# Altium schematic symbol library 4.2   - 接插件-脚距1.25.SchLib: 16 symbols
Pins are listed as number, name and electrical type; pins without a type are passive.

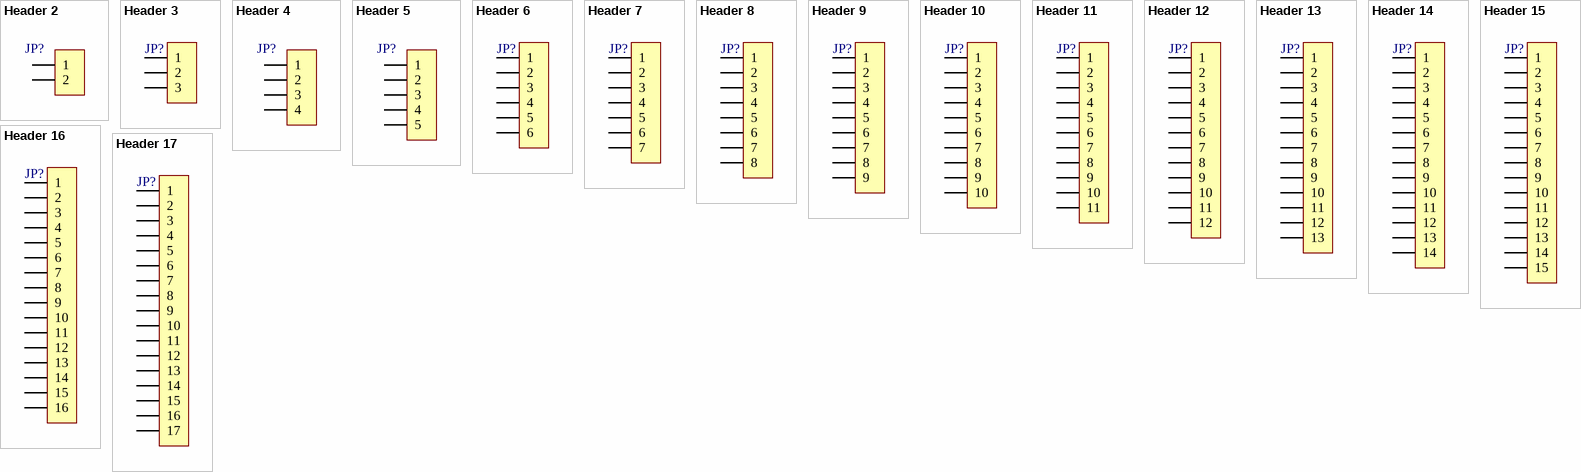
[diagram p0: symbols Header 2 to Header 17]

## Header 2
designator JP?, comment HDR-1X2  (value not drawn)
2P接插件; 版权归属: 源创客; BOM名称: 2P接插件; 学习资源: www.ooocke.com
footprint MX 1.25-WI-2P (长：4.25mm，宽：1.8mm，高：3.3mm)
footprint MX 1.25-LI-2P (长：4.25mm，宽：3.2mm，高：4.2mm)
footprint MX 1.25-WS-2P (长：7.65mm，宽：4.2mm，高：3.4mm)
footprint MX 1.25-LS-2P (长：7.25m，宽：3.7mm，高：4.7mm)
pins: 1, 2

## Header 3
designator JP?, comment HDR-1X3  (value not drawn)
3P接插件; 版权归属: 源创客; BOM名称: 3P接插件; 学习资源: www.ooocke.com
footprint MX 1.25-WI-3P (长：5.5mm，宽：1.8mm，高：3.3mm)
footprint MX 1.25-LI-3P (长：5.5mm，宽：3.2mm，高：4.2mm)
footprint MX 1.25-WS-3P (长：8.9mm，宽：4.2mm，高：3.4mm)
footprint MX 1.25-LS-3P (长：8.5m，宽：3.7mm，高：4.7mm)
pins: 1, 2, 3

## Header 4
designator JP?, comment HDR-1X4  (value not drawn)
4P接插件; 版权归属: 源创客; BOM名称: 4P接插件; 学习资源: www.ooocke.com
footprint MX 1.25-WI-4P (长：6.75mm，宽：1.8mm，高：3.3mm)
footprint MX 1.25-LI-4P (长：6.75mm，宽：3.2mm，高：4.2mm)
footprint MX 1.25-WS-4P (长：10.15mm，宽：4.2mm，高：3.4mm)
footprint MX 1.25-LS-4P (长：9.75m，宽：3.7mm，高：4.7mm)
pins: 1, 2, 3, 4

## Header 5
designator JP?, comment HDR-1X5  (value not drawn)
5P接插件; 版权归属: 源创客; BOM名称: 5P接插件; 学习资源: www.ooocke.com
footprint MX 1.25-WI-5P (长：8mm，宽：1.8mm，高：3.3mm)
footprint MX 1.25-LI-5P (长：8mm，宽：3.2mm，高：4.2mm)
footprint MX 1.25-WS-5P (长：11.4mm，宽：4.2mm，高：3.4mm)
footprint MX 1.25-LS-5P (长：11m，宽：3.7mm，高：4.7mm)
pins: 1, 2, 3, 4, 5

## Header 6
designator JP?, comment HDR-1X6  (value not drawn)
6P接插件; 版权归属: 源创客; BOM名称: 6P接插件; 学习资源: www.ooocke.com
footprint MX 1.25-WI-6P (长：9.25mm，宽：1.8mm，高：3.3mm)
footprint MX 1.25-LI-6P (长：9.25mm，宽：3.2mm，高：4.2mm)
footprint MX 1.25-WS-6P (长：12.65mm，宽：4.2mm，高：3.4mm)
footprint MX 1.25-LS-6P (长：12.25m，宽：3.7mm，高：4.7mm)
pins: 1, 2, 3, 4, 5, 6

## Header 7
designator JP?, comment HDR-1X7  (value not drawn)
7P接插件; 版权归属: 源创客; BOM名称: 7P接插件; 学习资源: www.ooocke.com
footprint MX 1.25-WI-7P (长：10.5mm，宽：1.8mm，高：3.3mm)
footprint MX 1.25-LI-7P (长：10.5mm，宽：3.2mm，高：4.2mm)
footprint MX 1.25-WS-7P (长：13.9mm，宽：4.2mm，高：3.4mm)
footprint MX 1.25-LS-7P (长：13.5m，宽：3.7mm，高：4.7mm)
pins: 1, 2, 3, 4, 5, 6, 7

## Header 8
designator JP?, comment HDR-1X8  (value not drawn)
8P接插件; 版权归属: 源创客; BOM名称: 8P接插件; 学习资源: www.ooocke.com
footprint MX 1.25-WI-8P (长：11.75mm，宽：1.8mm，高：3.3mm)
footprint MX 1.25-LI-8P (长：11.75mm，宽：3.2mm，高：4.2mm)
footprint MX 1.25-WS-8P (长：15.15mm，宽：4.2mm，高：3.4mm)
footprint MX 1.25-LS-8P (长：14.75m，宽：3.7mm，高：4.7mm)
pins: 1, 2, 3, 4, 5, 6, 7, 8

## Header 9
designator JP?, comment HDR-1X9  (value not drawn)
9P接插件; 版权归属: 源创客; BOM名称: 9P接插件; 学习资源: www.ooocke.com
footprint MX 1.25-WI-9P (长：13mm，宽：1.8mm，高：3.3mm)
footprint MX 1.25-LI-9P (长：13mm，宽：3.2mm，高：4.2mm)
footprint MX 1.25-WS-9P (长：16.4mm，宽：4.2mm，高：3.4mm)
footprint MX 1.25-LS-9P (长：16m，宽：3.7mm，高：4.7mm)
pins: 1, 2, 3, 4, 5, 6, 7, 8, 9

## Header 10
designator JP?, comment HDR-1X10  (value not drawn)
10P接插件; 版权归属: 源创客; BOM名称: 10P接插件; 学习资源: www.ooocke.com
footprint MX 1.25-LI-10P (长：14.25mm，宽：3.2mm，高：4.2mm)
footprint MX 1.25-LS-10P (10脚，长：14.5mm，宽：3.2mm，高：4.2mm)
footprint MX 1.25-WI-10P (10脚，长：14.5mm，宽：1.8mm，高：3.3mm)
footprint MX 1.25-WS-10P (10脚，长：14.5mm，宽：4.2mm，高：3.4mm)
pins: 1, 2, 3, 4, 5, 6, 7, 8, 9, 10

## Header 11
designator JP?, comment HDR-1X11  (value not drawn)
11P接插件; 版权归属: 源创客; BOM名称: 11P接插件; 学习资源: www.ooocke.com
footprint MX 1.25-WI-11P (长：15.5mm，宽：1.8mm，高：3.3mm)
footprint MX 1.25-LI-11P (长：15.5mm，宽：3.2mm，高：4.2mm)
footprint MX 1.25-WS-11P (长：18.9mm，宽：4.2mm，高：3.4mm)
footprint MX 1.25-LS-11P (长：18.5mm，宽：3.7mm，高：4.7mm)
pins: 1, 2, 3, 4, 5, 6, 7, 8, 9, 10, 11

## Header 12
designator JP?, comment HDR-1X12  (value not drawn)
12P接插件; 版权归属: 源创客; BOM名称: 12P接插件; 学习资源: www.ooocke.com
footprint MX 1.25-WI-12P (长：16.75mm，宽：1.8mm，高：3.3mm)
footprint MX 1.25-LI-12P (长：16.75mm，宽：3.2mm，高：4.2mm)
footprint MX 1.25-WS-12P (长：20.15mm，宽：4.2mm，高：3.4mm)
footprint MX 1.25-LS-12P (长：19.75mm，宽：3.7mm，高：4.7mm)
pins: 1, 2, 3, 4, 5, 6, 7, 8, 9, 10, 11, 12

## Header 13
designator JP?, comment HDR-1X13  (value not drawn)
13P接插件; 版权归属: 源创客; BOM名称: 13P接插件; 学习资源: www.ooocke.com
footprint MX 1.25-WS-13P (长：21.4mm，宽：4.2mm，高：3.4mm)
footprint MX 1.25-LS-13P (长：21mm，宽：3.7mm，高：4.7mm)
footprint MX 1.25-LI-13P (长：18mm，宽：3.2mm，高：4.2mm)
footprint MX 1.25-WI-13P (长：18mm，宽：1.8mm，高：3.3mm)
pins: 1, 2, 3, 4, 5, 6, 7, 8, 9, 10, 11, 12, 13

## Header 14
designator JP?, comment HDR-1X14  (value not drawn)
14P接插件; 版权归属: 源创客; BOM名称: 14P接插件; 学习资源: www.ooocke.com
footprint MX 1.25-WS-14P (长：22.65mm，宽：4.2mm，高：3.4mm)
footprint MX 1.25-LS-14P (长：22.25mm，宽：3.7mm，高：4.7mm)
footprint MX 1.25-LI-14P (长：19.25mm，宽：3.2mm，高：4.2mm)
footprint MX 1.25-WI-14P (长：19.25mm，宽：1.8mm，高：3.3mm)
pins: 1, 2, 3, 4, 5, 6, 7, 8, 9, 10, 11, 12, 13, 14

## Header 15
designator JP?, comment HDR-1X15  (value not drawn)
15P接插件; 版权归属: 源创客; BOM名称: 15P接插件; 学习资源: www.ooocke.com
footprint MX 1.25-WS-15P (长：23.9mm，宽：4.2mm，高：3.4mm)
footprint MX 1.25-LS-15P (长：23.5mm，宽：3.7mm，高：4.7mm)
footprint MX 1.25-LI-15P (长：20.5mm，宽：3.2mm，高：4.2mm)
footprint MX 1.25-WI-15P (长：20.5mm，宽：1.8mm，高：3.3mm)
pins: 1, 2, 3, 4, 5, 6, 7, 8, 9, 10, 11, 12, 13, 14, 15

## Header 16
designator JP?, comment HDR-1X16  (value not drawn)
16P接插件; 版权归属: 源创客; BOM名称: 16P接插件; 学习资源: www.ooocke.com
footprint MX 1.25-WS-16P (长：25.15mm，宽：4.2mm，高：3.4mm)
footprint MX 1.25-LS-16P (长：24.75mm，宽：3.7mm，高：4.7mm)
footprint MX 1.25-LI-16P (长：21.75mm，宽：3.2mm，高：4.2mm)
footprint MX 1.25-WI-16P (长：21.75mm，宽：1.8mm，高：3.3mm)
pins: 1, 2, 3, 4, 5, 6, 7, 8, 9, 10, 11, 12, 13, 14, 15, 16

## Header 17
designator JP?, comment HDR-1X17  (value not drawn)
17P接插件; 版权归属: 源创客; BOM名称: 17P接插件; 学习资源: www.ooocke.com
footprint MX 1.25-WS-17P (长：26.4mm，宽：4.2mm，高：3.4mm)
footprint MX 1.25-LS-17P (长：26mm，宽：3.7mm，高：4.7mm)
footprint MX 1.25-WI-17P (长：23mm，宽：1.8mm，高：3.3mm)
footprint MX 1.25-LI-17P (长：23mm，宽：3.2mm，高：4.2mm)
pins: 1, 2, 3, 4, 5, 6, 7, 8, 9, 10, 11, 12, 13, 14, 15, 16, 17